# Altium footprint library SJ1-3544.PcbLib: 1 footprints
Each footprint in its own frame and in the unit in brackets; x right, y up, seen from the top. Pads: shape width x height; smd on the part's side, far side on the other; paste and mask are expansions set on the pad; w line width, h text height; cw(c..) or ccw(c..) is an arc to the next point about the centre after c.
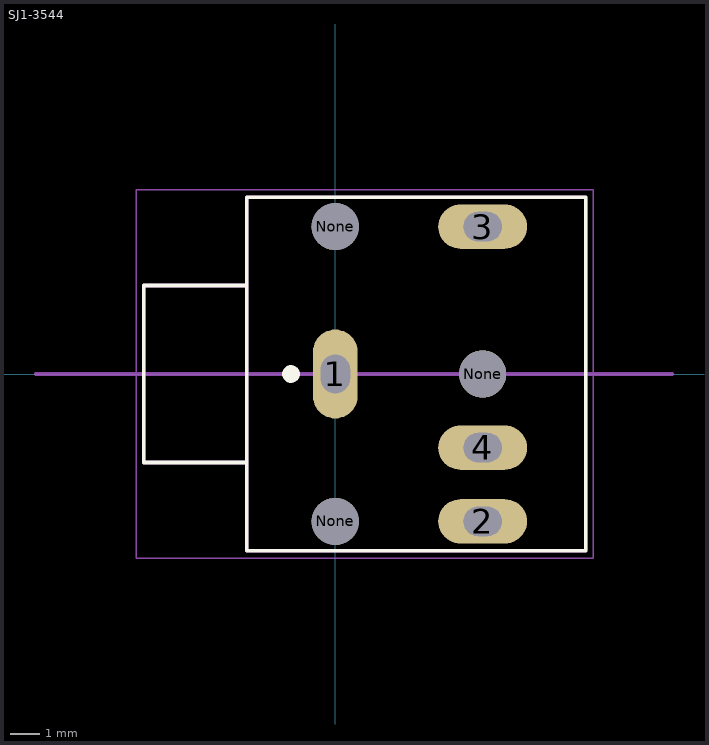
[diagram p0: the footprint, top view; thin cyan lines are the x and y axes]

## SJ1-3544 [mm] "3.5mm audio jack"
height 11
pads (7):
  oval 1.508x3.016 hole 1 slot 1.3 at 90 deg: 1(0,0)
  oval 3.016x1.508 hole 1 slot 1.3 at 0 deg: 2(5,-5) 3(5,5) 4(5,-2.5)
  round 1.6 hole 1.6 unplated: None(0,-5) None(0,5) None(5,0)
Top Overlay:
  circle w0.3: c-1.5,0 r0.15
  lines w0.127: -3,-3 -6.5,-3 -6.5,3 -3,3 ; -3,-3 -3,-6 8.5,-6 8.5,6 -3,6 -3,3 ; -3,-3 -3,3
Mechanical 1:
  lines w0.127: -10.16,0 11.43,0 ; -3,-3 -6.5,-3 -6.5,3 -3,3 ; -3,-3 -3,3 ; -3,-3 -3,-6 8.5,-6 8.5,6 -3,6 -3,3
Mechanical 4:
  lines w0: -0.5,-0.75 -0.5,0.75 0.5,0.75 0.5,-0.75 -0.5,-0.75 ; 4.25,-5.5 5.75,-5.5 5.75,-4.5 4.25,-4.5 4.25,-5.5 ; 4.25,-3 5.75,-3 5.75,-2 4.25,-2 4.25,-3 ; 4.25,4.5 5.75,4.5 5.75,5.5 4.25,5.5 4.25,4.5
  lines w0.05: -6.75,-6.25 -6.75,6.25 8.75,6.25 8.75,-6.25 -6.75,-6.25
3D body: height 9.96, standoff -6.83, extent 2,2.5 2,2.5
3D body "[RBF] CUI_SJ1-3544 v1.step": height 11.4, standoff -3.6, extent -6.5,-6 8.5,6.2